# Altium schematic symbol library 7seg.SchLib: 1 symbol
Pins are listed as number, name and electrical type; pins without a type are passive.

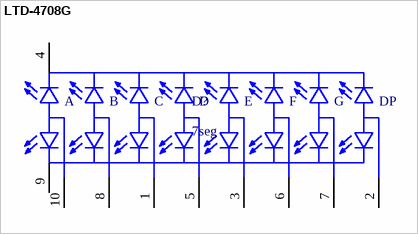
[diagram p0: symbol LTD-4708G]

## LTD-4708G
designator D?, comment 7seg
LED 2-DIGIT 7-SEGMENT DISPLAY GREEN; MP: LTD-4708G; MF: Lite-On; Price: None; SnapEDA_Link: https://www.snapeda.com/parts/LTD-4708G/Lite-On/view-part/273971/?ref=snap; Availability: Unavailable; Value: *; Package: DIP-10 Lite-On
footprint LED_LTD-4708G
pins: 1 A_C, 2 A_DP, 3 A_E, 4 C_DIGIT2, 5 A_D, 6 A_F, 7 A_G, 8 A_B, 9 C_DIGIT1, 10 A_A
text: A; B; C; D; E; F; G; DP